# Altium schematic symbol library graphical_sign.SchLib: 27 symbols
Pins are listed as number, name and electrical type; pins without a type are passive.

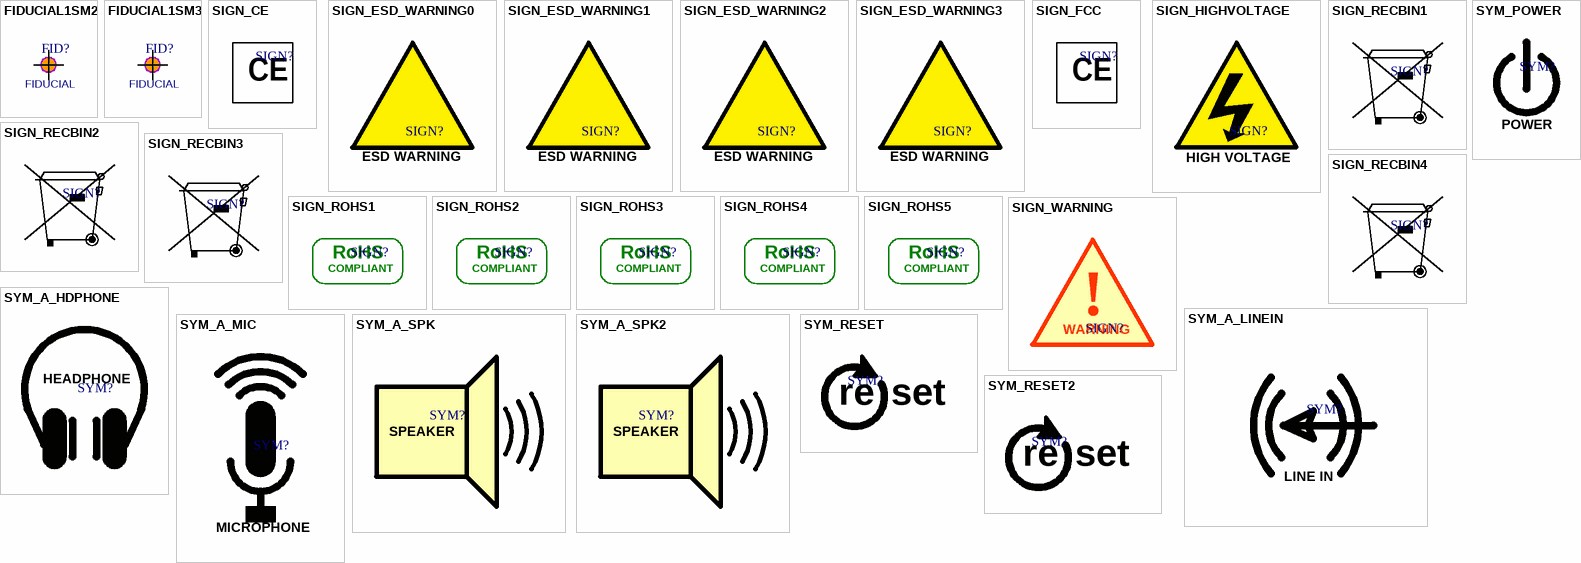
[diagram p0: symbols FIDUCIAL1SM2 to SYM_RESET2]

## FIDUCIAL1SM2
designator FID?, comment FIDUCIAL  (graphical)
FIDUCIAL PCB ASSEMBLY AUTOMATED SMT; ASSEMBLY: DNP; VALUE: FIDUCIAL
footprint FIDUCIAL1SM2 (FIDUCIAL 1mm Pad, 2mm SolderMask)

## FIDUCIAL1SM3
designator FID?, comment FIDUCIAL  (graphical)
FIDUCIAL PCB ASSEMBLY AUTOMATED SMT; ASSEMBLY: DNP; VALUE: FIDUCIAL
footprint FIDUCIAL1SM3 (FIDUCIAL 1mm Pad, 3mm SolderMask)

## SIGN_CE
designator SIGN?, comment CE_COMPLIANT  (value not drawn)  (graphical)
CE Compliant, 7x7mm; ASSEMBLY: DNP; VALUE: CE_COMPLIANT
footprint SIGN_CE (CE Compliant, 8x7mm)
text: CE

## SIGN_ESD_WARNING0
designator SIGN?, comment ESD_WARNING  (value not drawn)  (graphical)
Electrostatic Discharge Warning, Smallest (8x7mm); ASSEMBLY: DNP; VALUE: ESD_WARNING
footprint ESD_WARNING0 (Electrostatic Discharge Warning, 8x7mm)
text: ESD WARNING

## SIGN_ESD_WARNING1
designator SIGN?, comment ESD_WARNING  (value not drawn)  (graphical)
Electrostatic Discharge Warning, 10.3X11.6mm; ASSEMBLY: DNP; VALUE: ESD_WARNING
footprint ESD_WARNING1 (Electrostatic Discharge Warning, 10.3X11.6mm)
text: ESD WARNING

## SIGN_ESD_WARNING2
designator SIGN?, comment ESD_WARNING  (value not drawn)  (graphical)
Electrostatic Discharge Warning, 10.3X11.6mm; ASSEMBLY: DNP; VALUE: ESD_WARNING
footprint ESD_WARNING2 (Electrostatic Discharge Warning, 10.3X11.6mm)
text: ESD WARNING

## SIGN_ESD_WARNING3
designator SIGN?, comment ESD_WARNING  (value not drawn)  (graphical)
Electrostatic Discharge Warning, 9.6X11.1mm; ASSEMBLY: DNP; VALUE: ESD_WARNING
footprint ESD_WARNING3 (Electrostatic Discharge Warning, 9.6X11.1mm)
text: ESD WARNING

## SIGN_FCC
designator SIGN?, comment FCC_COMPLIANT  (value not drawn)  (graphical)
FCC Compliant, 7x7mm; ASSEMBLY: DNP; VALUE: FCC_COMPLIANT
footprint SIGN_CE (CE Compliant, 8x7mm)
text: CE

## SIGN_HIGHVOLTAGE
designator SIGN?, comment HIGH_VOLTAGE  (value not drawn)  (graphical)
SIGN, HIGH VOLTAGE HAZARD, 12X12.5mm; ASSEMBLY: DNP; VALUE: HIGH_VOLTAGE
footprint SIGN_HIGHVOLTAGE (SIGN, HIGH VOLTAGE HAZARD, 12X12.5mm)
text: HIGH VOLTAGE

## SIGN_RECBIN1
designator SIGN?, comment Recycle-bin  (value not drawn)  (graphical)
SIGN, Recycle-bin, 6x5mm; ASSEMBLY: DNP; VALUE: Recycle-bin
footprint SIGN_RECBIN1 (SIGN, Recycle-bin, 6x5mm)

## SIGN_RECBIN2
designator SIGN?, comment Recycle-bin  (value not drawn)  (graphical)
SIGN, Recycle-bin, 8x7mm; ASSEMBLY: DNP; VALUE: Recycle-bin
footprint SIGN_RECBIN2 (SIGN, Recycle-bin, 8x7mm)

## SIGN_RECBIN3
designator SIGN?, comment Recycle-bin  (value not drawn)  (graphical)
SIGN, Recycle-bin, 10x8mm; ASSEMBLY: DNP; VALUE: Recycle-bin
footprint SIGN_RECBIN3 (SIGN, Recycle-bin, 10x8mm)

## SIGN_RECBIN4
designator SIGN?, comment Recycle-bin  (value not drawn)  (graphical)
SIGN, Recycle-bin, 14X14mm; ASSEMBLY: DNP; VALUE: Recycle-bin
footprint SIGN_RECBIN4 (SIGN, Recycle-bin, 14X14mm)

## SIGN_ROHS1
designator SIGN?, comment ROHS  (value not drawn)  (graphical)
SIGN, ROHS Compliant, 5.5x4.8mm; ASSEMBLY: DNP; VALUE: ROHS
footprint SIGN_ROHS1 (SIGN, ROHS Compliant, 5.5x4.8mm)
text: RoHS; COMPLIANT

## SIGN_ROHS2
designator SIGN?, comment ROHS  (value not drawn)  (graphical)
SIGN, ROHS Compliant, 14X12mm; ASSEMBLY: DNP; VALUE: ROHS
footprint SIGN_ROHS2 (SIGN, ROHS Compliant, 14X12mm)
text: RoHS; COMPLIANT

## SIGN_ROHS3
designator SIGN?, comment ROHS  (value not drawn)  (graphical)
SIGN, ROHS Compliant, 22.5X12mm; ASSEMBLY: DNP; VALUE: ROHS
footprint SIGN_ROHS3 (SIGN, ROHS Compliant, 22.5X12mm)
text: RoHS; COMPLIANT

## SIGN_ROHS4
designator SIGN?, comment ROHS  (value not drawn)  (graphical)
SIGN, ROHS Compliant, 12X12mm; ASSEMBLY: DNP; VALUE: ROHS
footprint SIGN_ROHS4 (SIGN, ROHS Compliant, 12X12mm)
text: RoHS; COMPLIANT

## SIGN_ROHS5
designator SIGN?, comment ROHS  (value not drawn)  (graphical)
SIGN, ROHS Compliant, 12X12mm; ASSEMBLY: DNP; VALUE: ROHS
footprint SIGN_ROHS5 (SIGN, ROHS Compliant, 12X12mm)
text: RoHS; COMPLIANT

## SIGN_WARNING
designator SIGN?, comment WARNING  (value not drawn)  (graphical)
SIGN, WARNING, 12X12mm; ASSEMBLY: DNP; VALUE: WARNING
footprint SIGN_WARNING (SIGN, WARNING, 12X12mm)
text: !

## SYM_A_HDPHONE
designator SYM?, comment HeadPhone  (value not drawn)  (graphical)
Symbol, Audio, HeadPhone, 8X6.5mm; ASSEMBLY: DNP; VALUE: HeadPhone
footprint SYM_A_HDPHONE (Symbol, Audio, HeadPhone)
text: HEADPHONE

## SYM_A_LINEIN
designator SYM?, comment LineIN  (value not drawn)  (graphical)
Symbol, Audio, LineIN, 8X6.5mm; ASSEMBLY: DNP; VALUE: LineIN
footprint SYM_A_HDPHONE (Symbol, Audio, HeadPhone)
text: LINE IN

## SYM_A_MIC
designator SYM?, comment Microphone  (value not drawn)  (graphical)
Symbol, Audio, Microphone, 6X9.5mm; ASSEMBLY: DNP; VALUE: Microphone
footprint SYM_A_MIC (Symbol, Audio, Microphone, 6X9.5mm)
text: MICROPHONE

## SYM_A_SPK
designator SYM?, comment Speaker  (value not drawn)  (graphical)
Symbol, Audio, Speaker, 8X6.5mm; ASSEMBLY: DNP; VALUE: Speaker
footprint SYM_A_SPK (Symbol, Audio, Speaker)
text: SPEAKER

## SYM_A_SPK2
designator SYM?, comment Speaker  (value not drawn)  (graphical)
Symbol, Audio, Speaker, 8X6.5mm; ASSEMBLY: DNP; VALUE: Speaker
footprint SYM_A_SPK2 (Symbol, Audio, Speaker Full)
text: SPEAKER

## SYM_POWER
designator SYM?, comment POWER  (value not drawn)  (graphical)
Symbol, POWER, 4.6X6.3mm; ASSEMBLY: DNP; VALUE: POWER
footprint SYM_POWER (Symbol, POWER, 4.6X6.3mm)

## SYM_RESET
designator SYM?, comment RESET  (value not drawn)  (graphical)
Symbol, RESET, 8.8x5mm; ASSEMBLY: DNP; VALUE: RESET
footprint SYM_RESET (Symbol, RESET, 8.8x5mm)
text: re; set

## SYM_RESET2
designator SYM?, comment RESET  (value not drawn)  (graphical)
Symbol, RESET, 5.4x6.3mm; ASSEMBLY: DNP; VALUE: RESET
footprint SYM_RESET2 (Symbol, RESET, 5.4x6.3mm)
text: re; set